# Altium footprint library NHD0208BZFLYBW.PcbLib: 1 footprints
Each footprint in its own frame and in the unit in brackets; x right, y up, seen from the top. Pads: shape width x height; smd on the part's side, far side on the other; paste and mask are expansions set on the pad; w line width, h text height; cw(c..) or ccw(c..) is an arc to the next point about the centre after c.
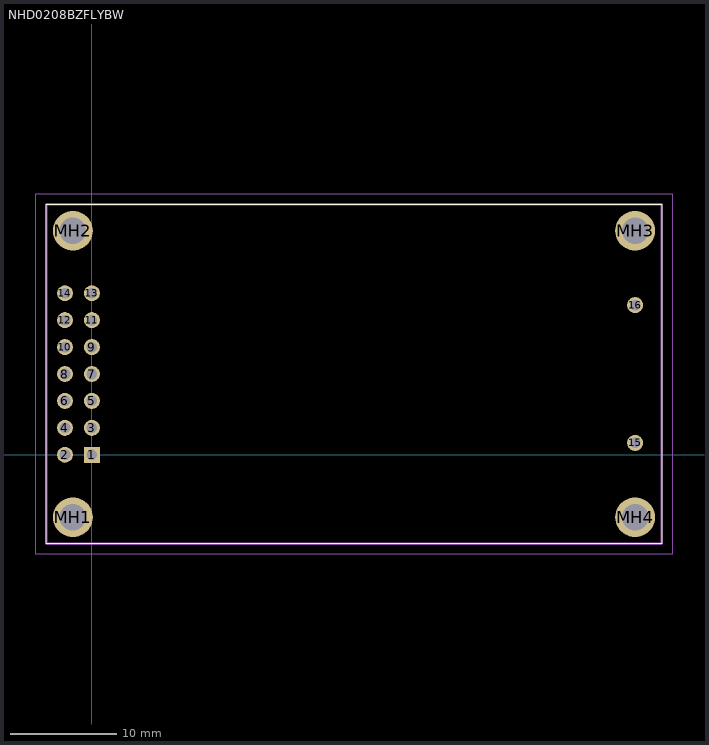
[diagram p0: the footprint, top view; thin cyan lines are the x and y axes]

## NHD0208BZFLYBW [mm]
pads (20):
  rect 1.5x1.5 hole 1: 1(0,0)
  round 1.5 hole 1: 2(-2.54,0) 3(0,2.54) 4(-2.54,2.54) 5(0,5.08) 6(-2.54,5.08) 7(0,7.62) 8(-2.54,7.62) 9(0,10.16) 10(-2.54,10.16) 11(0,12.7) 12(-2.54,12.7) 13(0,15.24) 14(-2.54,15.24) 15(51.21,1.12) 16(51.21,14.12)
  round 3.75 hole 2.5: MH1(-1.79,-5.88) MH2(-1.79,21.12) MH3(51.21,21.12) MH4(51.21,-5.88)
Top Overlay:
  lines w0.1: -4.29,-8.38 53.71,-8.38 53.71,23.62 -4.29,23.62 -4.29,-8.38
Mechanical 15:
  lines w0.2: -4.29,-8.38 53.71,-8.38 53.71,23.62 -4.29,23.62 -4.29,-8.38
Mechanical 20:
  lines w0.1: -5.29,-9.38 54.71,-9.38 54.71,24.62 -5.29,24.62 -5.29,-9.38